# EAGLE library part BREAKOUT_SOT23-6 (library microbuilder)
IC Breakout SOT23-6
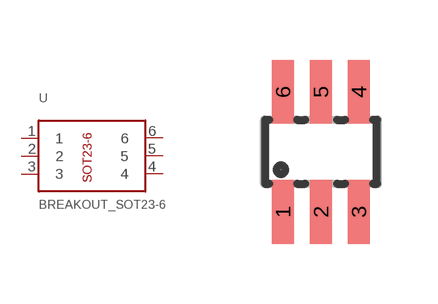
[diagram p144: symbol with the pads of BREAKOUT_SOT23-6; footprint BREAKOUT_SOT23-6]

Designator prefix U

## BREAKOUT_SOT23-6  [BREAKOUT_SOT23-6]
1  1
2  2
3  3
4  4
5  5
6  6

## Footprint BREAKOUT_SOT23-6 (pad centres in mm)
smd 0.55 x 1.6: 1 -0.95,-1.5; 2 0,-1.5; 3 0.95,-1.5; 4 0.95,1.5; 5 0,1.5; 6 -0.95,1.5